# Altium footprint library lps_display_rev_i.PcbLib: 33 footprints (part 3 of 3)
Each footprint in its own frame and in the unit in brackets; x right, y up, seen from the top. Pads: shape width x height; smd on the part's side, far side on the other; paste and mask are expansions set on the pad; w line width, h text height; cw(c..) or ccw(c..) is an arc to the next point about the centre after c.
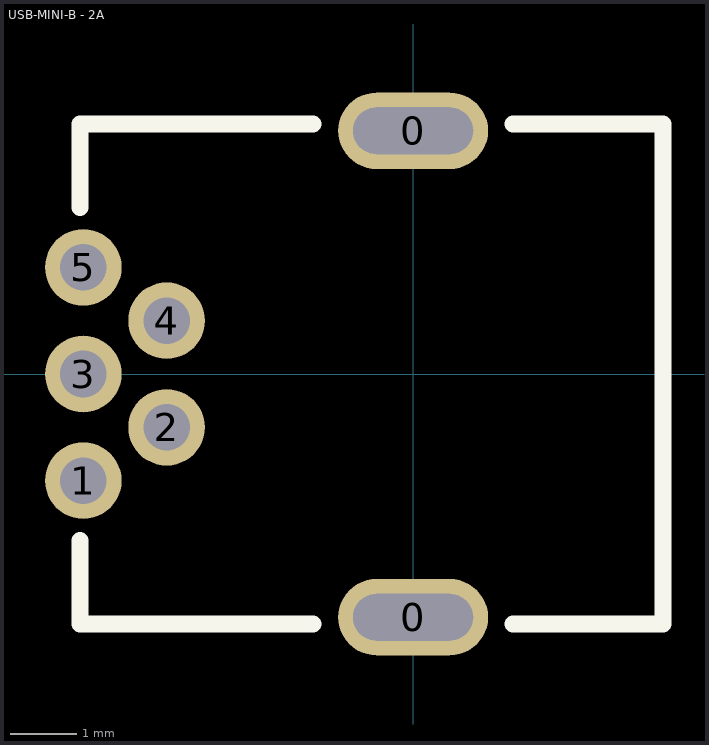
[diagram p2: the footprint, top view; thin cyan lines are the x and y axes]

## USB-MINI-B - 2A [mm]
pads (7):
  oval 2.25x1.15 hole 0.7 slot 1.8 at 0 deg: 0(0,-3.65) 0(0,3.65)
  round 1.15 hole 0.7: 1(-4.95,-1.6) 2(-3.7,-0.8) 3(-4.95,0) 4(-3.7,0.8) 5(-4.95,1.6)
Top Overlay:
  lines w0.254: -5,-2.5 -5,-3.75 -1.5,-3.75 ; -5,2.5 -5,3.75 -1.5,3.75 ; 1.5,-3.75 3.75,-3.75 3.75,3.75 1.5,3.75
3D body "54-00019.STEP": height 3.95, standoff -1.95, extent -5.25,-3.85 3.95,3.85